# Altium footprint library WSBS5216L1000KK.PcbLib: 1 footprints
Each footprint in its own frame and in the unit in brackets; x right, y up, seen from the top. Pads: shape width x height; smd on the part's side, far side on the other; paste and mask are expansions set on the pad; w line width, h text height; cw(c..) or ccw(c..) is an arc to the next point about the centre after c.
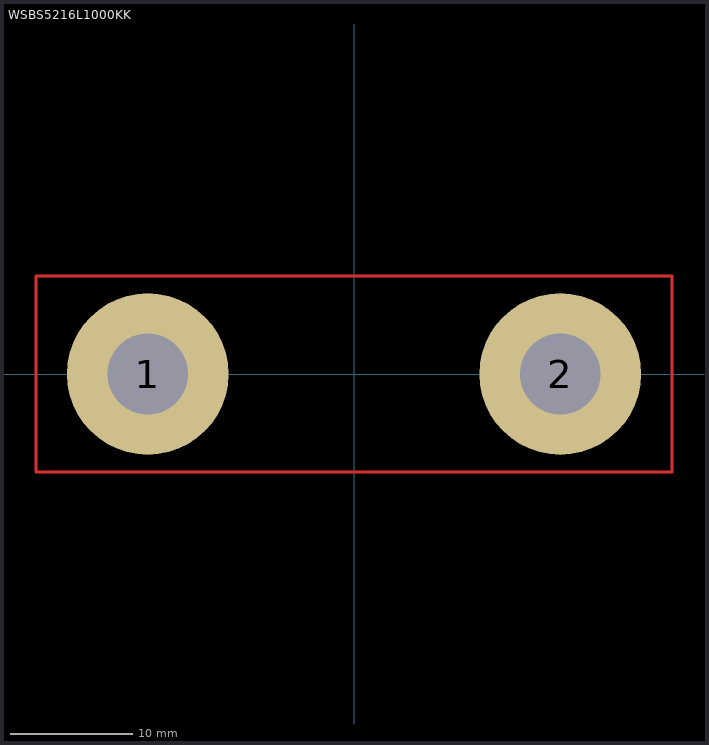
[diagram p0: the footprint, top view; thin cyan lines are the x and y axes]

## WSBS5216L1000KK [mil]
pads (2):
  round 520 hole 260: 1(-663.5,0) 2(663.5,0)
Top Layer:
  lines w10: -1023.5,-315 1023.5,-315 1023.5,315 -1023.5,315 -1023.5,-315